# EAGLE library part CAN-INTERFACE (library can-interface)
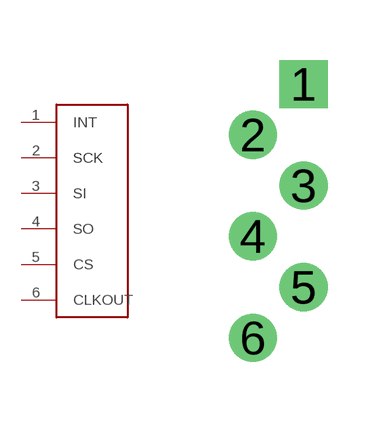
[diagram p0: symbol with the pads of VIA-LIST; footprint VIA-LIST]

Designator prefix -

## CAN-INTERFACE  [VIA-LIST]
1  INT
2  SCK
3  SI
4  SO
5  CS
6  CLKOUT

## Footprint VIA-LIST (pad centres in mm)
drill 0.7 square: 1 0,2.54
drill 0.7 round: 2 -1.27,1.27; 3 0,0; 4 -1.27,-1.27; 5 0,-2.54; 6 -1.27,-3.81